# EAGLE library part SHT31-DIS-B (library mbed-HDK-IC)
Temperature and Humidity Sensor I2C 2% 8DFN
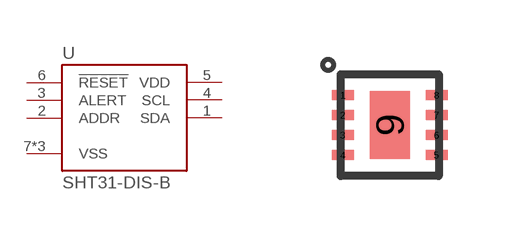
[diagram p18: symbol with the pads of 8-DFN; footprint 8-DFN]

Designator prefix U

## SHT31-DIS-B (MF: Sensirion; MFN: SHT31-DIS-B; OC-DIGIKEY: 1649-1011-1-ND; OC-MOUSER: 403-SHT31-DIS-B; OC-NEWARK: 2474218)  [8-DFN]
1  SDA
2  ADDR
3  ALERT
4  SCL
5  VDD
6  !RESET
7  VSS
8  VSS
9  VSS

## Footprint 8-DFN (pad centres in mm)
smd 0.55 x 0.25: 1 0,1.5; 2 0,1; 3 0,0.5; 4 0,0; 5 2.35,0; 6 2.35,0.5; 7 2.35,1; 8 2.35,1.5
smd 1 x 1.7: 9 1.175,0.75